# Altium integrated library Relay.IntLib: 12 symbols
Pins are listed as number, name and electrical type; pins without a type are passive.

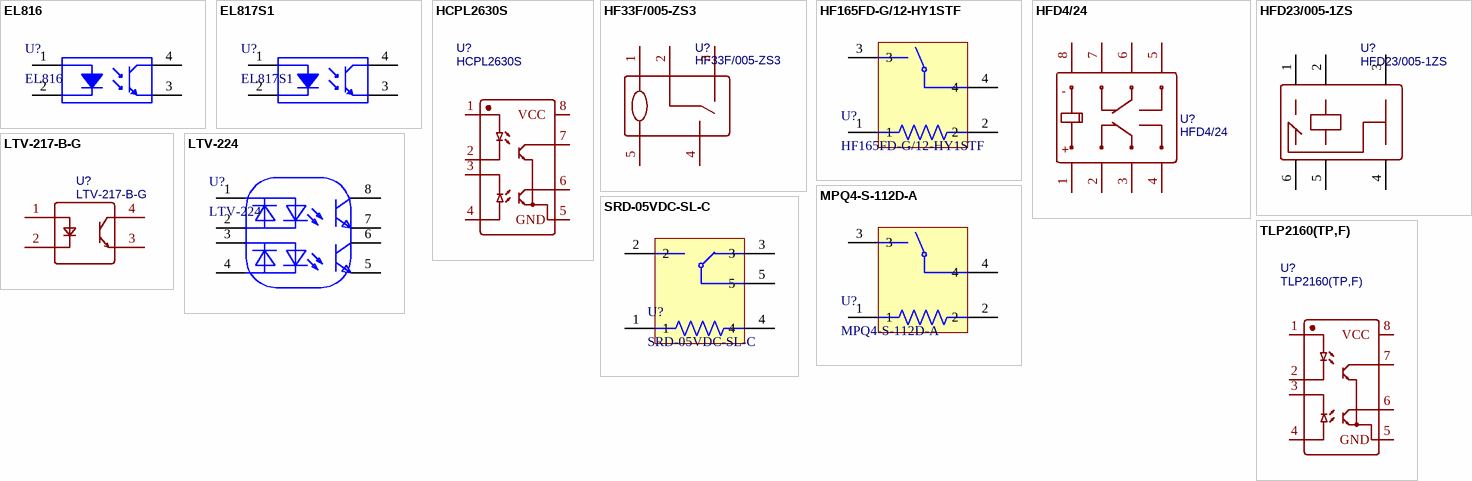
[diagram p0: symbols EL816 to TLP2160(TP,F)]

## EL816
designator U?
光耦隔离开关
footprint SO-4_6.5x4.58mm_P2.54mm (SOP, 4-Leads, Body 4.58x6.50mm, Pitch 2.54mm, IPC Medium Density)
pins: 1 Anode, 2 Cathode, 3 Emitter, 4 Collector

## EL817S1
designator U?
光耦隔离开关
footprint SO-4_6.5x4.58mm_P2.54mm (SOP, 4-Leads, Body 4.58x6.50mm, Pitch 2.54mm, IPC Medium Density)
pins: 1 Anode, 2 Cathode, 3 Emitter, 4 Collector

## HCPL2630S
designator U?
HCPL2630S 光耦; BOM_Manufacturer: ON Semicon; Contributor: LCSC; BOM_Supplier: LCSC; BOM_Supplier Part: C274634; BOM_Manufacturer Part: HCPL2630S; BOM_JLCPCB Part Class: Extended Part; spicePre: U; spiceSymbolName: HCPL2630S
footprint SMD-8_L9.8-W6.6-P2.54-LS10.3-BL
pins: 1 +, 2 -, 3 -, 4 +, 5 GND, 6 VO2, 7 VO1, 8 VCC

## HF33F/005-ZS3
designator U?
宏发继电器HF33F/005-ZS3; BOM_Manufacturer: HF; Contributor: LCSC; BOM_Supplier: LCSC; BOM_Manufacturer Part: HF33F/005-ZS3; BOM_Supplier Part: C129185; BOM_JLCPCB Part Class: Extended Part; spicePre: K; spiceSymbolName: HF33F/005-ZS3
footprint RELAY-TH_HF33F-005-ZS3
pins: 1, 2, 3, 4, 5

## HF165FD-G/12-HY1STF
designator U?
SPST 继电器  40A
footprint RELY_SPST_HONGFA_HF165FD-G/12-HY1STF
pins: 1, 2, 3, 4

## HFD4/24
designator U?
继电器; BOM_Manufacturer: Xiamen Hongfa Electroacoustic; Contributor: LCSC; BOM_Supplier: LCSC; BOM_Supplier Part: C85581; BOM_Manufacturer Part: HFD4/24; BOM_JLCPCB Part Class: Extended Part; spicePre: K; spiceSymbolName: HFD4/24
footprint RELAY-TH_HFDXXX
pins: 1, 2, 3, 4, 5, 6, 7, 8
text: -; +

## HFD23/005-1ZS
designator U?
继电器; BOM_Manufacturer: HF; BOM_Manufacturer Part: HFD23/012-1ZS; BOM_Supplier: LCSC; BOM_Supplier Part: C3646; BOM_JLCPCB Part Class: Extended Part; spicePre: K; spiceSymbolName: HFD23/012-1ZS
footprint RELAY-TH_HFD23-X-1ZX
pins: 1, 2, 3, 4, 5, 6

## LTV-217-B-G
designator U?
光耦; BOM_Manufacturer: LITEON; Contributor: LCSC; BOM_Supplier: LCSC; BOM_Manufacturer Part: LTV-217-B-G; BOM_Supplier Part: C115450; BOM_JLCPCB Part Class: Extended Part; spicePre: U; spiceSymbolName: LTV-217-B-G
footprint SOP-4_L4.4-W2.8-P1.27-LS7.0-BR
pins: 1 AN, 2 CAT, 3 EM, 4 COL

## LTV-224
designator U?
AC,DC输入 隔离电压(rms):3750V
footprint SO-8_3.9x4.9mm_P1.27mm (SOIC, 8-Leads, Body 4.9x3.90mm, Pitch 1.27mm, IPC Medium Density)
pins: 1, 2, 3, 4, 5, 6, 7, 8

## MPQ4-S-112D-A
designator U?
SPST 继电器
footprint Relay_SPST_MPQ4-S-112D-A
pins: 1, 2, 3, 4

## SRD-05VDC-SL-C
designator U?
SPDT 继电器
footprint Relay_SPDT_Songle_SRD-05VDC-SL-C
pins: 1, 2, 3, 4, 5

## TLP2160(TP,F)
designator U?
TLP2160(TP,F) 光耦; BOM_Manufacturer: ON Semicon; BOM_Manufacturer Part: HCPL2630S; Contributor: LCSC; BOM_Supplier: LCSC; BOM_Supplier Part: C274634; BOM_JLCPCB Part Class: Extended Part; spicePre: U; spiceSymbolName: HCPL2630S
footprint SO-8_3.9x4.9mm_P1.27mm (SOIC, 8-Leads, Body 4.9x3.90mm, Pitch 1.27mm, IPC Medium Density)
pins: 1 +, 2 -, 3 -, 4 +, 5 GND, 6 VO2, 7 VO1, 8 VCC